# EAGLE library part LTC2485 (library booz)
24-Bit ADC With Easy Drive, Input Current Cancellation and I2C Interface
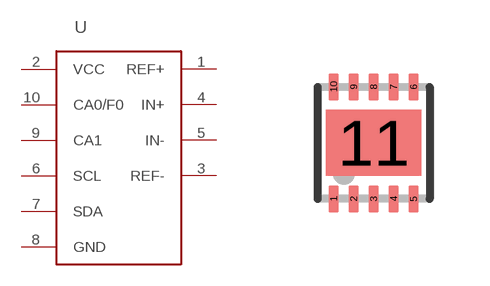
[diagram p7: symbol with the pads of DFN10; footprint DFN10]

Designator prefix -

## LTC2485  [DFN10]
1  REF+
2  VCC
3  REF-
4  IN+
5  IN-
6  SCL
7  SDA
8  GND
9  CA1
10  CA0/F0

## Footprint DFN10 (pad centres in mm)
smd 0.25 x 0.675: 1 -1,-1.4; 2 -0.5,-1.4; 3 0,-1.4; 4 0.5,-1.4; 5 1,-1.4; 6 1,1.4; 7 0.5,1.4; 8 0,1.4; 9 -0.5,1.4; 10 -1,1.4
smd 2.38 x 1.65: 11 0,0